# Altium schematic symbol library shelby_temp.SchLib: 1 symbol
Pins are listed as number, name and electrical type; pins without a type are passive.

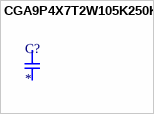
[diagram p0: symbol CGA9P4X7T2W105K250KE]

## CGA9P4X7T2W105K250KE
designator C?
CAP CER 1UF 450V X7T 2220; Manufacturer: TDK; Manufacturer Part Number: CGA9P4X7T2W105K250KE; Tolerance: 10%; Supplier 1: Digi-Key; Stock 1: 10698; Pricing 1: 1=3.67, 10=2.957, 100=2.3064 (USD); Mount: Surface Mount; Case/Package: 2220; Weight: 0.016932oz; Case Code (Metric): 5750; Case Code (Imperial): 2220; Min Operating Temperature: -55°C; Max Operating Temperature: 125°C; Capacitance: 1uF; Voltage Rating: 450V; Packaging: Tape and Reel; Termination: SMD/SMT; Package Quantity: 1; Voltage Rating (DC): 450V; Dielectric: X7T; Features: Soft Termination; Length: 5.7mm; Height: 2.5mm; Width: 0.197inch; Thickness: 0.11inch; Depth: 5mm; Ratings: AEC-Q200; REACH SVHC: No SVHC; ComponentLink1URL: http://www.mouser.com/ds/2/400/lcc_commercial_soft_en-775842.pdf?src-supplier=Mouser; ComponentLink1Description: http://www.mouser.com/ds/2/400/lcc_commercial_soft_en-775842.pdf?src-supplier=Mouser; ComponentLink2URL: http://www.farnell.com/datasheets/1839935.pdf?src-supplier=Element14; ComponentLink2Description: http://www.farnell.com/datasheets/1839935.pdf?src-supplier=Element14; Supplier Part Number 1: 445-8765-6-ND
footprint CAPC5860X28N (Chip Capacitor, 2-Leads, Body 5.75x6.00mm, IPC Medium Density)
pins: 2